# EAGLE library part M25P20 (library memory-micron)
SPI SERIAL FLASH
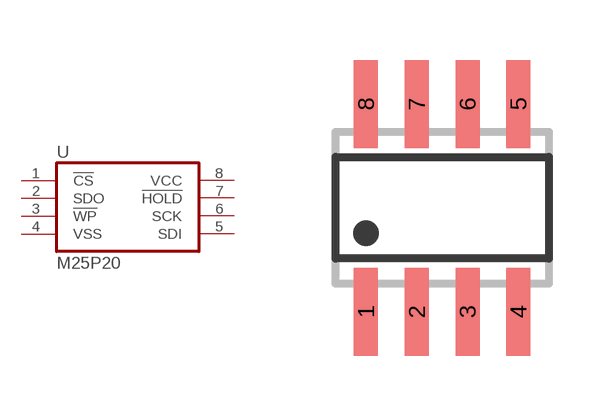
[diagram p4: symbol with the pads of SO08; footprint SO08]

Designator prefix U

## M25P20S  [SO08]
1  !CS!  in
2  SDO  out
3  !WP!  in
4  VSS  pwr
5  SDI  in
6  SCK  in
7  !HOLD!  in
8  VCC  pwr

## Footprint SO08 (pad centres in mm)
SMALL OUTLINE INTEGRATED CIRCUIT 150 mil (3.9 mm) body/JEDEC MS-012AA
smd 0.6 x 2.2: 1 -1.905,-2.6; 2 -0.635,-2.6; 3 0.635,-2.6; 4 1.905,-2.6; 5 1.905,2.6; 6 0.635,2.6; 7 -0.635,2.6; 8 -1.905,2.6